# Altium schematic symbol library stm32f030f4p6-tssop20.SchLib: 1 symbol
Pins are listed as number, name and electrical type; pins without a type are passive.

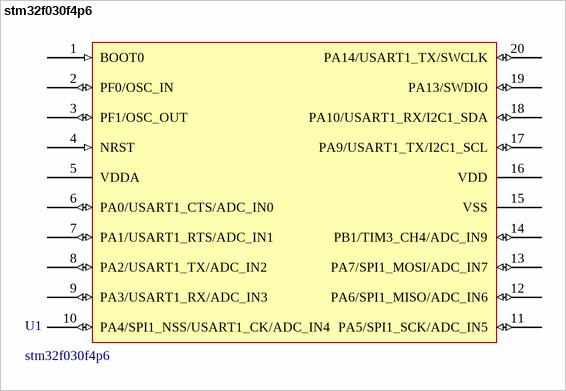
[diagram p0: symbol stm32f030f4p6]

## stm32f030f4p6
designator U1
pins: 1 BOOT0 (in), 2 PF0/OSC_IN (io), 3 PF1/OSC_OUT (io), 4 NRST (in), 5 VDDA (power), 6 PA0/USART1_CTS/ADC_IN0 (io), 7 PA1/USART1_RTS/ADC_IN1 (io), 8 PA2/USART1_TX/ADC_IN2 (io), 9 PA3/USART1_RX/ADC_IN3 (io), 10 PA4/SPI1_NSS/USART1_CK/ADC_IN4 (io), 11 PA5/SPI1_SCK/ADC_IN5 (io), 12 PA6/SPI1_MISO/ADC_IN6 (io), 13 PA7/SPI1_MOSI/ADC_IN7 (io), 14 PB1/TIM3_CH4/ADC_IN9 (io), 15 VSS (power), 16 VDD (power), 17 PA9/USART1_TX/I2C1_SCL (io), 18 PA10/USART1_RX/I2C1_SDA (io), 19 PA13/SWDIO (io), 20 PA14/USART1_TX/SWCLK (io)